# Altium schematic symbol library IC-MicroOne.SchLib: 4 symbols
Pins are listed as number, name and electrical type; pins without a type are passive.

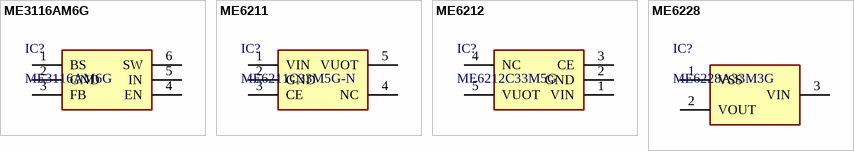
[diagram p0: symbols ME3116AM6G to ME6228]

## ME3116AM6G
designator IC?
DC-DC电源芯片 4.75v-40V输入 1A; Manufacturer_Name: MICRONE(南京微盟); ComponentLink1Description: LCSC; ComponentLink1URL: C97643; Manufacturer_Part_Number: ME3116AM6G; LCSC: C97643; Manufacturer_Name_1: *; Manufacturer_Part_Number_1: *
footprint SOT23-6 (SOT23, 6-Leads, Body 2.95x2.85mm, Pitch 0.95mm, IPC Medium Density)
pins: 1 BS, 2 GND, 3 FB, 4 EN, 5 IN, 6 SW

## ME6211
designator IC?, comment ME6211C33M5G-N
LDO芯片 输入6V 输出3.3V 500mA; Manufacturer_Name: MICRONE(南京微盟); Manufacturer_Part_Number: ME6211C33M5G-N; LCSC: C82942; Manufacturer_Name_1: *; Manufacturer_Part_Number_1: *
footprint SOT23-5 (SOT23, 5-Leads, Body 2.90x2.80mm, Pitch 0.95mm, IPC Medium Density)
pins: 1 VIN, 2 GND, 3 CE, 4 NC, 5 VUOT

## ME6212
designator IC?, comment ME6212C33M5G
LDO芯片 输入6V 输出3.3V 350mA; Manufacturer_Name: MICRONE(南京微盟); Manufacturer_Part_Number: ME6212C33M5G; LCSC: C81233; Manufacturer_Name_1: *; Manufacturer_Part_Number_1: *
footprint SOT23-5 (SOT23, 5-Leads, Body 2.90x2.80mm, Pitch 0.95mm, IPC Medium Density)
pins: 1 VIN, 2 GND, 3 CE, 4 NC, 5 VUOT

## ME6228
designator IC?, comment ME6228A33M3G
LDO芯片  输入30V 输出3.3V 150mA; Manufacturer_Name: MICRONE(南京微盟); Manufacturer_Part_Number: ME6228A33M3G; LCSC: C487914; Manufacturer_Name_1: *; Manufacturer_Part_Number_1: *
footprint SOT23-3
pins: 1 VSS, 2 VOUT, 3 VIN